# EAGLE library part BM10NB(0.8)-20DS-0.4V(51) (library con-hirose-bm10)
RECEPTACAL
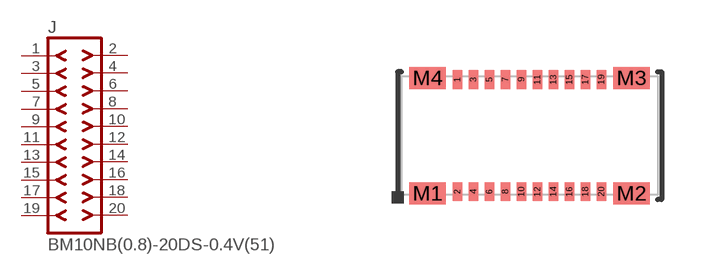
[diagram p2: symbol with the pads of BM10NB(0.X)-20DS-0.4V(51); footprint BM10NB(0.X)-20DS-0.4V(51)]

Designator prefix J

## BM10NB(0.8)-20DS-0.4V(51) (DIGIKEY: H11824CT-ND; P1I: o)  [BM10NB(0.X)-20DS-0.4V(51)]
1  1  pas
2  2  pas
3  3  pas
4  4  pas
5  5  pas
6  6  pas
7  7  pas
8  8  pas
9  9  pas
10  10  pas
11  11  pas
12  12  pas
13  13  pas
14  14  pas
15  15  pas
16  16  pas
17  17  pas
18  18  pas
19  19  pas
20  20  pas

## Footprint BM10NB(0.X)-20DS-0.4V(51) (pad centres in mm)
RECEPTACAL 0.4 mm pitch
smd 0.23 x 0.47: 1 -1.8,1.405; 2 -1.8,-1.405; 3 -1.4,1.405; 4 -1.4,-1.405; 5 -1,1.405; 6 -1,-1.405; 7 -0.6,1.405; 8 -0.6,-1.405; 9 -0.2,1.405; 10 -0.2,-1.405; 11 0.2,1.405; 12 0.2,-1.405; 13 0.6,1.405; 14 0.6,-1.405; 15 1,1.405; 16 1,-1.405; 17 1.4,1.405; 18 1.4,-1.405; 19 1.8,1.405; 20 1.8,-1.405
smd 0.92 x 0.55: M1 -2.55,-1.445; M2 2.55,-1.445; M3 2.55,1.445; M4 -2.55,1.445